# EAGLE library part T2 (library 0_inductor)
Neofocal specific 3 winding Toroid (hand wound) DNOrder
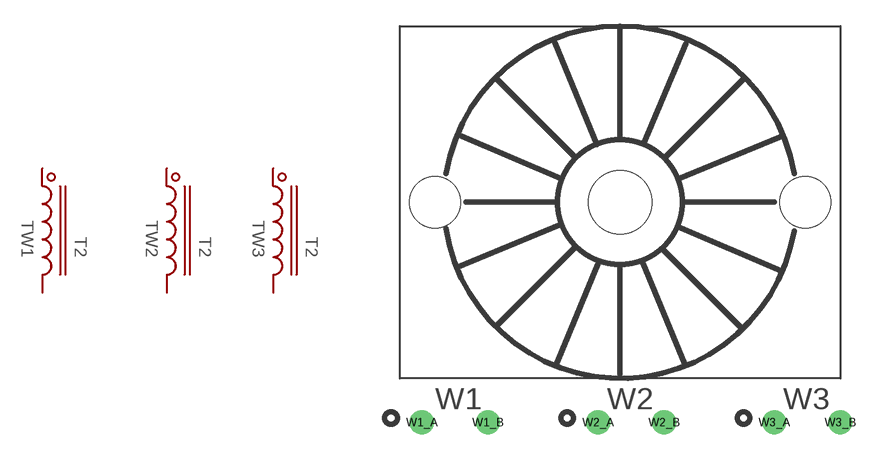
[diagram p1: symbol with the pads of 3WINDING_0.8IN; footprint 3WINDING_0.8IN]

Designator prefix T; gates W1=W2 W2=W2 W3=W2

## T2 (DIGIKEY: DNS)  [3WINDING_0.8IN]
W1_A  W1:2_A  pas
W1_B  W1:2_B  pas
W2_A  W2:2_A  pas
W2_B  W2:2_B  pas
W3_A  W3:2_A  pas
W3_B  W3:2_B  pas

## Footprint 3WINDING_0.8IN (pad centres in mm)
Neofocal: Hand-Wound toroid Inductor 10mm spacing
drill 0.889: W1_A -11.43,-12.7; W1_B -7.62,-12.7; W2_A -1.27,-12.7; W2_B 2.54,-12.7; W3_A 8.89,-12.7; W3_B 12.7,-12.7
hole 3.658 at 0,0
hole 2.946 at -10.668,0
hole 2.946 at 10.668,0